# Altium schematic symbol library SN74LVC2G241.SchLib: 1 symbol
Pins are listed as number, name and electrical type; pins without a type are passive.

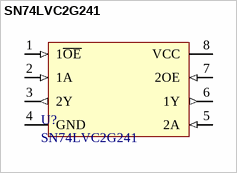
[diagram p0: symbol SN74LVC2G241]

## SN74LVC2G241
designator U?
Dual  Buffer/Driver  With  3-State  Outputs, designed for 1.65-5.5Vcc operation; Manufacturer: Texas Instruments; MPN: SN74LVC2G241DCUR; Farnell: 2437234
footprint TSOP65P400X130-8N (TSOP, 8-Leads, Body 2,95x2,80mm, Pitch 0,65mm, IPC Medium Density)
pins: 1 1~{OE} (in), 2 1A (in), 3 2Y (out), 4 GND (power), 5 2A (in), 6 1Y (out), 7 2OE (in), 8 VCC (power)